# Altium footprint library Connector_Molex.PcbLib: 815 footprints (part 32 of 51)
Each footprint in its own frame and in the unit in brackets; x right, y up, seen from the top. Pads: shape width x height; smd on the part's side, far side on the other; paste and mask are expansions set on the pad; w line width, h text height; cw(c..) or ccw(c..) is an arc to the next point about the centre after c.
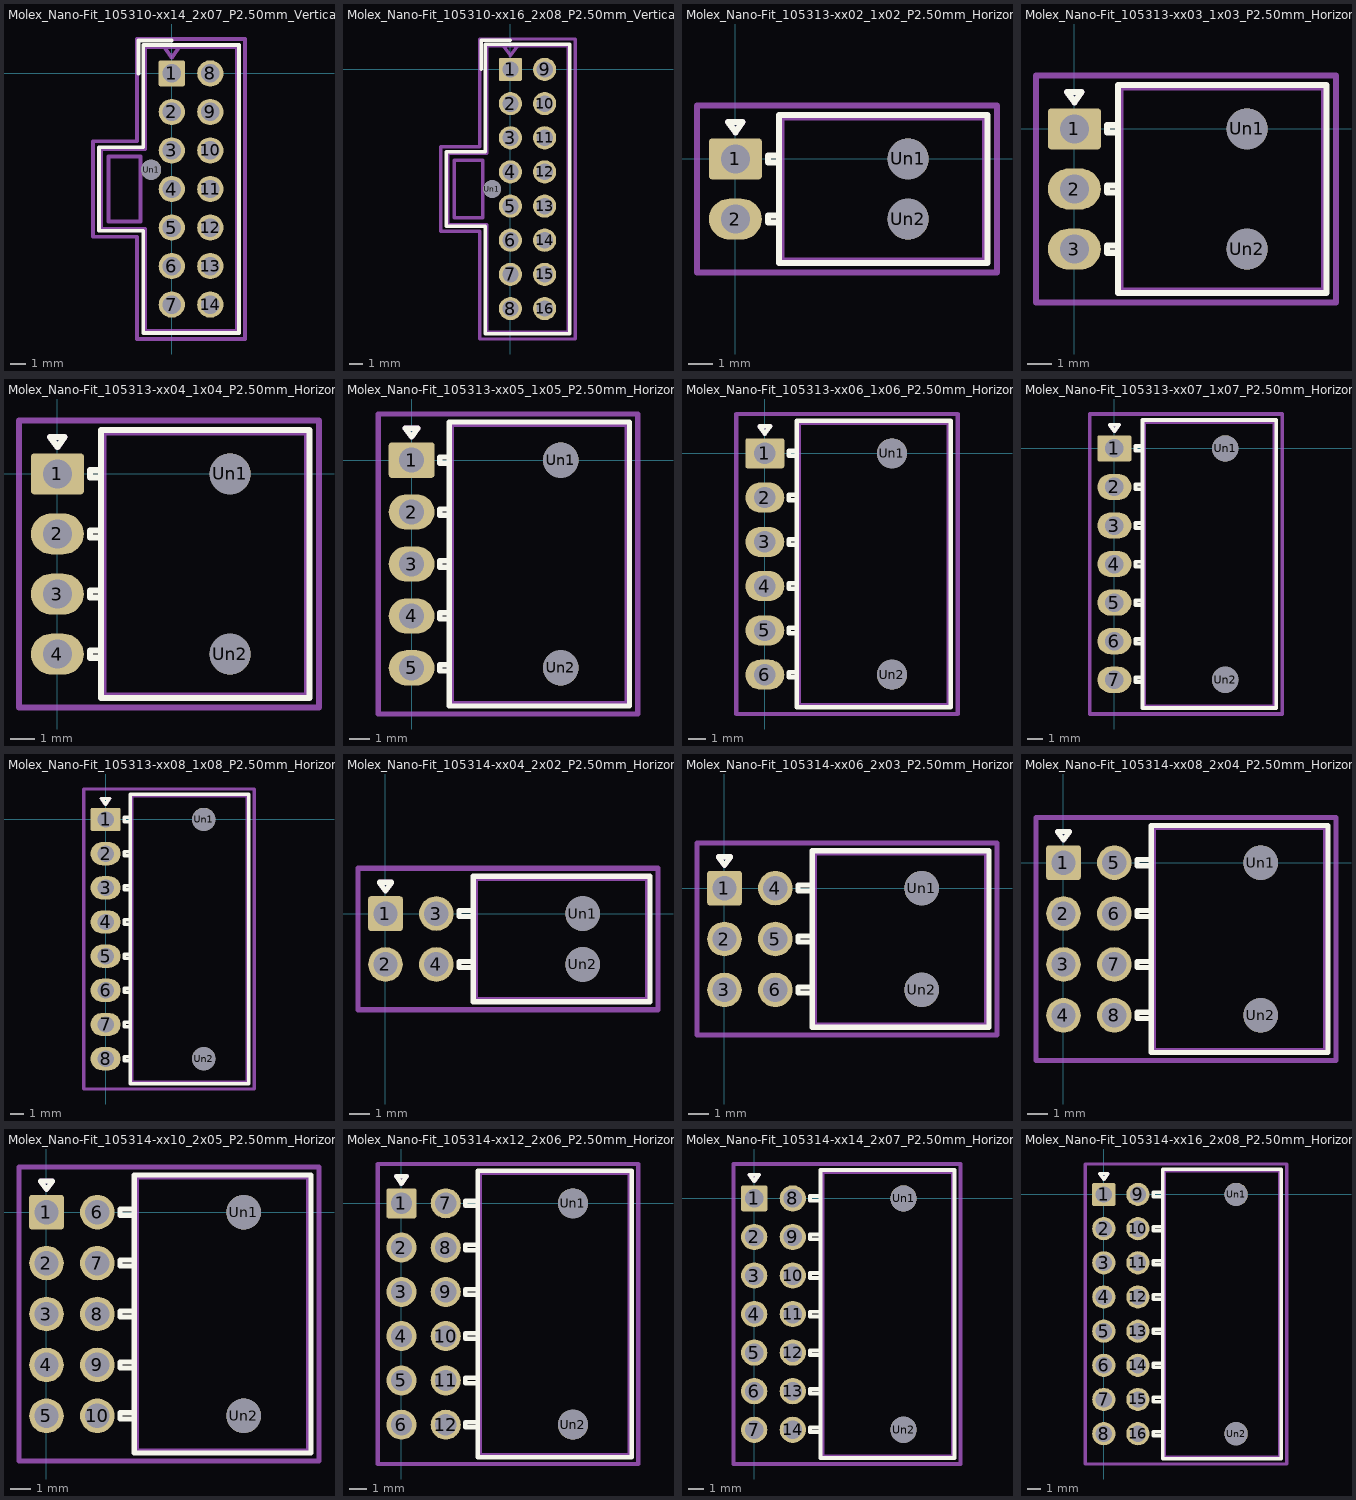
[diagram p31: the footprints below, top view; thin cyan lines are the x and y axes]

## Molex_Nano-Fit_105310-xx14_2x07_P2.50mm_Vertical [mm]
pads (15):
  rrect15% 1.7x1.7 hole 1.2: 1(0,0)
  round 1.7 hole 1.2: 2(0,-2.5) 3(0,-5) 4(0,-7.5) 5(0,-10) 6(0,-12.5) 7(0,-15) 8(2.5,0) 9(2.5,-2.5) 10(2.5,-5) 11(2.5,-7.5) 12(2.5,-10) 13(2.5,-12.5) 14(2.5,-15)
  round 1.3 hole 1.3: Un1(-1.34,-6.25)
F.SilkS:
  lines w0.254: -2.15,0 -2.15,2.13 0,2.13 ; -4.71,-10.21 -1.85,-10.21 -1.85,-16.83 4.35,-16.83 4.35,-7.5 4.35,1.83 -1.85,1.83 -1.85,-4.79 -4.71,-4.79 -4.71,-7.5 -4.71,-10.21
Top Assembly:
  lines w0.254: -0.5,1.72 0,1.013 0.5,1.72 ; -4.6,-10.1 -1.74,-10.1 -1.74,-16.72 4.24,-16.72 4.24,-7.5 4.24,1.72 -1.74,1.72 -1.74,-4.9 -4.6,-4.9 -4.6,-7.5 -4.6,-10.1 ; -4.1,-9.6 -2.02,-9.6 -2.02,-5.4 -4.1,-5.4 -4.1,-9.6
  text "'.Designator'" at 4.38,-11.547 h1
Top Courtyard:
  lines w0.254: -5.1,-10.6 -2.25,-10.6 -2.25,-17.23 4.74,-17.23 4.74,-7.5 4.74,2.23 -2.25,2.23 -2.25,-4.4 -5.1,-4.4 -5.1,-7.5 -5.1,-10.6
Top Designator:
  text ".Designator" at -7.798,-8.008 h1.52

## Molex_Nano-Fit_105310-xx16_2x08_P2.50mm_Vertical [mm]
pads (17):
  rrect15% 1.7x1.7 hole 1.2: 1(0,0)
  round 1.7 hole 1.2: 2(0,-2.5) 3(0,-5) 4(0,-7.5) 5(0,-10) 6(0,-12.5) 7(0,-15) 8(0,-17.5) 9(2.5,0) 10(2.5,-2.5) 11(2.5,-5) 12(2.5,-7.5) 13(2.5,-10) 14(2.5,-12.5) 15(2.5,-15) 16(2.5,-17.5)
  round 1.3 hole 1.3: Un1(-1.34,-8.75)
F.SilkS:
  lines w0.254: -2.15,0 -2.15,2.13 0,2.13 ; -4.71,-11.46 -1.85,-11.46 -1.85,-19.33 4.35,-19.33 4.35,-8.75 4.35,1.83 -1.85,1.83 -1.85,-6.04 -4.71,-6.04 -4.71,-8.75 -4.71,-11.46
Top Assembly:
  lines w0.254: -0.5,1.72 0,1.013 0.5,1.72 ; -4.6,-11.35 -1.74,-11.35 -1.74,-19.22 4.24,-19.22 4.24,-8.75 4.24,1.72 -1.74,1.72 -1.74,-6.15 -4.6,-6.15 -4.6,-8.75 -4.6,-11.35 ; -4.1,-10.85 -2.02,-10.85 -2.02,-6.65 -4.1,-6.65 -4.1,-10.85
  text "'.Designator'" at 4.38,-12.797 h1
Top Courtyard:
  lines w0.254: -5.1,-11.85 -2.25,-11.85 -2.25,-19.73 4.74,-19.73 4.74,-8.75 4.74,2.23 -2.25,2.23 -2.25,-5.65 -5.1,-5.65 -5.1,-8.75 -5.1,-11.85
Top Designator:
  text ".Designator" at -7.798,-9.258 h1.52

## Molex_Nano-Fit_105313-xx02_1x02_P2.50mm_Horizontal [mm]
pads (4):
  rrect15% 2.2x1.7 hole 1.2: 1(0,0)
  rrect100% 2.2x1.7 hole 1.2: 2(0,-2.5)
  round 1.7 hole 1.7: Un1(7.18,0) Un2(7.18,-2.5)
F.SilkS:
  lines w0.254: -0.3,1.534 0.3,1.534 0,1.11 -0.3,1.534 ; 1.36,-2.65 1.81,-2.65 1.81,-2.35 1.36,-2.35 1.36,-2.65 ; 1.36,-0.15 1.81,-0.15 1.81,0.15 1.36,0.15 1.36,-0.15 ; 1.81,-4.33 10.49,-4.33 10.49,1.83 1.81,1.83 1.81,-4.33
Top Assembly:
  lines w0.254: -0.3,1.534 0.3,1.534 0,1.11 -0.3,1.534 ; 1.92,-4.22 10.38,-4.22 10.38,1.72 1.92,1.72 1.92,-4.22
  text "'.Designator'" at 2.103,-4.36 h1
Top Courtyard:
  lines w0.254: -1.6,-4.72 10.88,-4.72 10.88,2.22 -1.6,2.22 -1.6,-4.72
Top Designator:
  text ".Designator" at -2.978,-1.758 h1.52

## Molex_Nano-Fit_105313-xx03_1x03_P2.50mm_Horizontal [mm]
pads (5):
  rrect15% 2.2x1.7 hole 1.2: 1(0,0)
  rrect100% 2.2x1.7 hole 1.2: 2(0,-2.5) 3(0,-5)
  round 1.7 hole 1.7: Un1(7.18,0) Un2(7.18,-5)
F.SilkS:
  lines w0.254: -0.3,1.534 0.3,1.534 0,1.11 -0.3,1.534 ; 1.36,-5.15 1.81,-5.15 1.81,-4.85 1.36,-4.85 1.36,-5.15 ; 1.36,-2.65 1.81,-2.65 1.81,-2.35 1.36,-2.35 1.36,-2.65 ; 1.36,-0.15 1.81,-0.15 1.81,0.15 1.36,0.15 1.36,-0.15 ; 1.81,-6.83 10.49,-6.83 10.49,1.83 1.81,1.83 1.81,-6.83
Top Assembly:
  lines w0.254: -0.3,1.534 0.3,1.534 0,1.11 -0.3,1.534 ; 1.92,-6.72 10.38,-6.72 10.38,1.72 1.92,1.72 1.92,-6.72
  text "'.Designator'" at 2.103,-6.86 h1
Top Courtyard:
  lines w0.254: -1.6,-7.22 10.88,-7.22 10.88,2.22 -1.6,2.22 -1.6,-7.22
Top Designator:
  text ".Designator" at -2.978,-3.008 h1.52

## Molex_Nano-Fit_105313-xx04_1x04_P2.50mm_Horizontal [mm]
pads (6):
  rrect15% 2.2x1.7 hole 1.2: 1(0,0)
  rrect100% 2.2x1.7 hole 1.2: 2(0,-2.5) 3(0,-5) 4(0,-7.5)
  round 1.7 hole 1.7: Un1(7.18,0) Un2(7.18,-7.5)
F.SilkS:
  lines w0.254: -0.3,1.534 0.3,1.534 0,1.11 -0.3,1.534 ; 1.36,-7.65 1.81,-7.65 1.81,-7.35 1.36,-7.35 1.36,-7.65 ; 1.36,-5.15 1.81,-5.15 1.81,-4.85 1.36,-4.85 1.36,-5.15 ; 1.36,-2.65 1.81,-2.65 1.81,-2.35 1.36,-2.35 1.36,-2.65 ; 1.36,-0.15 1.81,-0.15 1.81,0.15 1.36,0.15 1.36,-0.15 ; 1.81,-9.33 10.49,-9.33 10.49,1.83 1.81,1.83 1.81,-9.33
Top Assembly:
  lines w0.254: -0.3,1.534 0.3,1.534 0,1.11 -0.3,1.534 ; 1.92,-9.22 10.38,-9.22 10.38,1.72 1.92,1.72 1.92,-9.22
  text "'.Designator'" at 2.103,-9.36 h1
Top Courtyard:
  lines w0.254: -1.6,-9.72 10.88,-9.72 10.88,2.22 -1.6,2.22 -1.6,-9.72
Top Designator:
  text ".Designator" at -2.978,-4.258 h1.52

## Molex_Nano-Fit_105313-xx05_1x05_P2.50mm_Horizontal [mm]
pads (7):
  rrect15% 2.2x1.7 hole 1.2: 1(0,0)
  rrect100% 2.2x1.7 hole 1.2: 2(0,-2.5) 3(0,-5) 4(0,-7.5) 5(0,-10)
  round 1.7 hole 1.7: Un1(7.18,0) Un2(7.18,-10)
F.SilkS:
  lines w0.254: -0.3,1.534 0.3,1.534 0,1.11 -0.3,1.534 ; 1.36,-10.15 1.81,-10.15 1.81,-9.85 1.36,-9.85 1.36,-10.15 ; 1.36,-7.65 1.81,-7.65 1.81,-7.35 1.36,-7.35 1.36,-7.65 ; 1.36,-5.15 1.81,-5.15 1.81,-4.85 1.36,-4.85 1.36,-5.15 ; 1.36,-2.65 1.81,-2.65 1.81,-2.35 1.36,-2.35 1.36,-2.65 ; 1.36,-0.15 1.81,-0.15 1.81,0.15 1.36,0.15 1.36,-0.15 ; 1.81,-11.83 10.49,-11.83 10.49,1.83 1.81,1.83 1.81,-11.83
Top Assembly:
  lines w0.254: -0.3,1.534 0.3,1.534 0,1.11 -0.3,1.534 ; 1.92,-11.72 10.38,-11.72 10.38,1.72 1.92,1.72 1.92,-11.72
  text "'.Designator'" at 2.103,-11.86 h1
Top Courtyard:
  lines w0.254: -1.6,-12.22 10.88,-12.22 10.88,2.22 -1.6,2.22 -1.6,-12.22
Top Designator:
  text ".Designator" at -2.978,-5.508 h1.52

## Molex_Nano-Fit_105313-xx06_1x06_P2.50mm_Horizontal [mm]
pads (8):
  rrect15% 2.2x1.7 hole 1.2: 1(0,0)
  rrect100% 2.2x1.7 hole 1.2: 2(0,-2.5) 3(0,-5) 4(0,-7.5) 5(0,-10) 6(0,-12.5)
  round 1.7 hole 1.7: Un1(7.18,0) Un2(7.18,-12.5)
F.SilkS:
  lines w0.254: -0.3,1.534 0.3,1.534 0,1.11 -0.3,1.534 ; 1.36,-12.65 1.81,-12.65 1.81,-12.35 1.36,-12.35 1.36,-12.65 ; 1.36,-10.15 1.81,-10.15 1.81,-9.85 1.36,-9.85 1.36,-10.15 ; 1.36,-7.65 1.81,-7.65 1.81,-7.35 1.36,-7.35 1.36,-7.65 ; 1.36,-5.15 1.81,-5.15 1.81,-4.85 1.36,-4.85 1.36,-5.15 ; 1.36,-2.65 1.81,-2.65 1.81,-2.35 1.36,-2.35 1.36,-2.65 ; 1.36,-0.15 1.81,-0.15 1.81,0.15 1.36,0.15 1.36,-0.15 ; 1.81,-14.33 10.49,-14.33 10.49,1.83 1.81,1.83 1.81,-14.33
Top Assembly:
  lines w0.254: -0.3,1.534 0.3,1.534 0,1.11 -0.3,1.534 ; 1.92,-14.22 10.38,-14.22 10.38,1.72 1.92,1.72 1.92,-14.22
  text "'.Designator'" at 2.103,-14.36 h1
Top Courtyard:
  lines w0.254: -1.6,-14.72 10.88,-14.72 10.88,2.22 -1.6,2.22 -1.6,-14.72
Top Designator:
  text ".Designator" at -2.978,-6.758 h1.52

## Molex_Nano-Fit_105313-xx07_1x07_P2.50mm_Horizontal [mm]
pads (9):
  rrect15% 2.2x1.7 hole 1.2: 1(0,0)
  rrect100% 2.2x1.7 hole 1.2: 2(0,-2.5) 3(0,-5) 4(0,-7.5) 5(0,-10) 6(0,-12.5) 7(0,-15)
  round 1.7 hole 1.7: Un1(7.18,0) Un2(7.18,-15)
F.SilkS:
  lines w0.254: -0.3,1.534 0.3,1.534 0,1.11 -0.3,1.534 ; 1.36,-15.15 1.81,-15.15 1.81,-14.85 1.36,-14.85 1.36,-15.15 ; 1.36,-12.65 1.81,-12.65 1.81,-12.35 1.36,-12.35 1.36,-12.65 ; 1.36,-10.15 1.81,-10.15 1.81,-9.85 1.36,-9.85 1.36,-10.15 ; 1.36,-7.65 1.81,-7.65 1.81,-7.35 1.36,-7.35 1.36,-7.65 ; 1.36,-5.15 1.81,-5.15 1.81,-4.85 1.36,-4.85 1.36,-5.15 ; 1.36,-2.65 1.81,-2.65 1.81,-2.35 1.36,-2.35 1.36,-2.65 ; 1.36,-0.15 1.81,-0.15 1.81,0.15 1.36,0.15 1.36,-0.15 ; 1.81,-16.83 10.49,-16.83 10.49,1.83 1.81,1.83 1.81,-16.83
Top Assembly:
  lines w0.254: -0.3,1.534 0.3,1.534 0,1.11 -0.3,1.534 ; 1.92,-16.72 10.38,-16.72 10.38,1.72 1.92,1.72 1.92,-16.72
  text "'.Designator'" at 2.103,-16.86 h1
Top Courtyard:
  lines w0.254: -1.6,-17.22 10.88,-17.22 10.88,2.23 -1.6,2.23 -1.6,-17.22
Top Designator:
  text ".Designator" at -2.978,-8.003 h1.52

## Molex_Nano-Fit_105313-xx08_1x08_P2.50mm_Horizontal [mm]
pads (10):
  rrect15% 2.2x1.7 hole 1.2: 1(0,0)
  rrect100% 2.2x1.7 hole 1.2: 2(0,-2.5) 3(0,-5) 4(0,-7.5) 5(0,-10) 6(0,-12.5) 7(0,-15) 8(0,-17.5)
  round 1.7 hole 1.7: Un1(7.18,0) Un2(7.18,-17.5)
F.SilkS:
  lines w0.254: -0.3,1.534 0.3,1.534 0,1.11 -0.3,1.534 ; 1.36,-17.65 1.81,-17.65 1.81,-17.35 1.36,-17.35 1.36,-17.65 ; 1.36,-15.15 1.81,-15.15 1.81,-14.85 1.36,-14.85 1.36,-15.15 ; 1.36,-12.65 1.81,-12.65 1.81,-12.35 1.36,-12.35 1.36,-12.65 ; 1.36,-10.15 1.81,-10.15 1.81,-9.85 1.36,-9.85 1.36,-10.15 ; 1.36,-7.65 1.81,-7.65 1.81,-7.35 1.36,-7.35 1.36,-7.65 ; 1.36,-5.15 1.81,-5.15 1.81,-4.85 1.36,-4.85 1.36,-5.15 ; 1.36,-2.65 1.81,-2.65 1.81,-2.35 1.36,-2.35 1.36,-2.65 ; 1.36,-0.15 1.81,-0.15 1.81,0.15 1.36,0.15 1.36,-0.15 ; 1.81,-19.33 10.49,-19.33 10.49,1.83 1.81,1.83 1.81,-19.33
Top Assembly:
  lines w0.254: -0.3,1.534 0.3,1.534 0,1.11 -0.3,1.534 ; 1.92,-19.22 10.38,-19.22 10.38,1.72 1.92,1.72 1.92,-19.22
  text "'.Designator'" at 2.103,-19.36 h1
Top Courtyard:
  lines w0.254: -1.6,-19.72 10.88,-19.72 10.88,2.23 -1.6,2.23 -1.6,-19.72
Top Designator:
  text ".Designator" at -2.978,-9.253 h1.52

## Molex_Nano-Fit_105314-xx04_2x02_P2.50mm_Horizontal [mm]
pads (6):
  rrect15% 1.7x1.7 hole 1.2: 1(0,0)
  round 1.7 hole 1.2: 2(0,-2.5) 3(2.5,0) 4(2.5,-2.5)
  round 1.7 hole 1.7: Un1(9.68,0) Un2(9.68,-2.5)
F.SilkS:
  lines w0.254: -0.3,1.534 0.3,1.534 0,1.11 -0.3,1.534 ; 3.61,-2.65 4.31,-2.65 4.31,-2.35 3.61,-2.35 3.61,-2.65 ; 3.61,-0.15 4.31,-0.15 4.31,0.15 3.61,0.15 3.61,-0.15 ; 4.31,-4.33 12.99,-4.33 12.99,1.83 4.31,1.83 4.31,-4.33
Top Assembly:
  lines w0.254: -0.3,1.534 0.3,1.534 0,1.11 -0.3,1.534 ; 4.42,-4.22 12.88,-4.22 12.88,1.72 4.42,1.72 4.42,-4.22
  text "'.Designator'" at 4.603,-4.36 h1
Top Courtyard:
  lines w0.254: -1.35,-4.72 13.38,-4.72 13.38,2.22 -1.35,2.22 -1.35,-4.72
Top Designator:
  text ".Designator" at -1.603,-1.758 h1.52

## Molex_Nano-Fit_105314-xx06_2x03_P2.50mm_Horizontal [mm]
pads (8):
  rrect15% 1.7x1.7 hole 1.2: 1(0,0)
  round 1.7 hole 1.2: 2(0,-2.5) 3(0,-5) 4(2.5,0) 5(2.5,-2.5) 6(2.5,-5)
  round 1.7 hole 1.7: Un1(9.68,0) Un2(9.68,-5)
F.SilkS:
  lines w0.254: -0.3,1.534 0.3,1.534 0,1.11 -0.3,1.534 ; 3.61,-5.15 4.31,-5.15 4.31,-4.85 3.61,-4.85 3.61,-5.15 ; 3.61,-2.65 4.31,-2.65 4.31,-2.35 3.61,-2.35 3.61,-2.65 ; 3.61,-0.15 4.31,-0.15 4.31,0.15 3.61,0.15 3.61,-0.15 ; 4.31,-6.83 12.99,-6.83 12.99,1.83 4.31,1.83 4.31,-6.83
Top Assembly:
  lines w0.254: -0.3,1.534 0.3,1.534 0,1.11 -0.3,1.534 ; 4.42,-6.72 12.88,-6.72 12.88,1.72 4.42,1.72 4.42,-6.72
  text "'.Designator'" at 4.603,-6.86 h1
Top Courtyard:
  lines w0.254: -1.35,-7.22 13.38,-7.22 13.38,2.22 -1.35,2.22 -1.35,-7.22
Top Designator:
  text ".Designator" at -1.603,-3.008 h1.52

## Molex_Nano-Fit_105314-xx08_2x04_P2.50mm_Horizontal [mm]
pads (10):
  rrect15% 1.7x1.7 hole 1.2: 1(0,0)
  round 1.7 hole 1.2: 2(0,-2.5) 3(0,-5) 4(0,-7.5) 5(2.5,0) 6(2.5,-2.5) 7(2.5,-5) 8(2.5,-7.5)
  round 1.7 hole 1.7: Un1(9.68,0) Un2(9.68,-7.5)
F.SilkS:
  lines w0.254: -0.3,1.534 0.3,1.534 0,1.11 -0.3,1.534 ; 3.61,-7.65 4.31,-7.65 4.31,-7.35 3.61,-7.35 3.61,-7.65 ; 3.61,-5.15 4.31,-5.15 4.31,-4.85 3.61,-4.85 3.61,-5.15 ; 3.61,-2.65 4.31,-2.65 4.31,-2.35 3.61,-2.35 3.61,-2.65 ; 3.61,-0.15 4.31,-0.15 4.31,0.15 3.61,0.15 3.61,-0.15 ; 4.31,-9.33 12.99,-9.33 12.99,1.83 4.31,1.83 4.31,-9.33
Top Assembly:
  lines w0.254: -0.3,1.534 0.3,1.534 0,1.11 -0.3,1.534 ; 4.42,-9.22 12.88,-9.22 12.88,1.72 4.42,1.72 4.42,-9.22
  text "'.Designator'" at 4.603,-9.36 h1
Top Courtyard:
  lines w0.254: -1.35,-9.72 13.38,-9.72 13.38,2.22 -1.35,2.22 -1.35,-9.72
Top Designator:
  text ".Designator" at -1.603,-4.258 h1.52

## Molex_Nano-Fit_105314-xx10_2x05_P2.50mm_Horizontal [mm]
pads (12):
  rrect15% 1.7x1.7 hole 1.2: 1(0,0)
  round 1.7 hole 1.2: 2(0,-2.5) 3(0,-5) 4(0,-7.5) 5(0,-10) 6(2.5,0) 7(2.5,-2.5) 8(2.5,-5) 9(2.5,-7.5) 10(2.5,-10)
  round 1.7 hole 1.7: Un1(9.68,0) Un2(9.68,-10)
F.SilkS:
  lines w0.254: -0.3,1.534 0.3,1.534 0,1.11 -0.3,1.534 ; 3.61,-10.15 4.31,-10.15 4.31,-9.85 3.61,-9.85 3.61,-10.15 ; 3.61,-7.65 4.31,-7.65 4.31,-7.35 3.61,-7.35 3.61,-7.65 ; 3.61,-5.15 4.31,-5.15 4.31,-4.85 3.61,-4.85 3.61,-5.15 ; 3.61,-2.65 4.31,-2.65 4.31,-2.35 3.61,-2.35 3.61,-2.65 ; 3.61,-0.15 4.31,-0.15 4.31,0.15 3.61,0.15 3.61,-0.15 ; 4.31,-11.83 12.99,-11.83 12.99,1.83 4.31,1.83 4.31,-11.83
Top Assembly:
  lines w0.254: -0.3,1.534 0.3,1.534 0,1.11 -0.3,1.534 ; 4.42,-11.72 12.88,-11.72 12.88,1.72 4.42,1.72 4.42,-11.72
  text "'.Designator'" at 4.603,-11.86 h1
Top Courtyard:
  lines w0.254: -1.35,-12.22 13.38,-12.22 13.38,2.22 -1.35,2.22 -1.35,-12.22
Top Designator:
  text ".Designator" at -1.603,-5.508 h1.52

## Molex_Nano-Fit_105314-xx12_2x06_P2.50mm_Horizontal [mm]
pads (14):
  rrect15% 1.7x1.7 hole 1.2: 1(0,0)
  round 1.7 hole 1.2: 2(0,-2.5) 3(0,-5) 4(0,-7.5) 5(0,-10) 6(0,-12.5) 7(2.5,0) 8(2.5,-2.5) 9(2.5,-5) 10(2.5,-7.5) 11(2.5,-10) 12(2.5,-12.5)
  round 1.7 hole 1.7: Un1(9.68,0) Un2(9.68,-12.5)
F.SilkS:
  lines w0.254: -0.3,1.534 0.3,1.534 0,1.11 -0.3,1.534 ; 3.61,-12.65 4.31,-12.65 4.31,-12.35 3.61,-12.35 3.61,-12.65 ; 3.61,-10.15 4.31,-10.15 4.31,-9.85 3.61,-9.85 3.61,-10.15 ; 3.61,-7.65 4.31,-7.65 4.31,-7.35 3.61,-7.35 3.61,-7.65 ; 3.61,-5.15 4.31,-5.15 4.31,-4.85 3.61,-4.85 3.61,-5.15 ; 3.61,-2.65 4.31,-2.65 4.31,-2.35 3.61,-2.35 3.61,-2.65 ; 3.61,-0.15 4.31,-0.15 4.31,0.15 3.61,0.15 3.61,-0.15 ; 4.31,-14.33 12.99,-14.33 12.99,1.83 4.31,1.83 4.31,-14.33
Top Assembly:
  lines w0.254: -0.3,1.534 0.3,1.534 0,1.11 -0.3,1.534 ; 4.42,-14.22 12.88,-14.22 12.88,1.72 4.42,1.72 4.42,-14.22
  text "'.Designator'" at 4.603,-14.36 h1
Top Courtyard:
  lines w0.254: -1.35,-14.72 13.38,-14.72 13.38,2.22 -1.35,2.22 -1.35,-14.72
Top Designator:
  text ".Designator" at -1.603,-6.758 h1.52

## Molex_Nano-Fit_105314-xx14_2x07_P2.50mm_Horizontal [mm]
pads (16):
  rrect15% 1.7x1.7 hole 1.2: 1(0,0)
  round 1.7 hole 1.2: 2(0,-2.5) 3(0,-5) 4(0,-7.5) 5(0,-10) 6(0,-12.5) 7(0,-15) 8(2.5,0) 9(2.5,-2.5) 10(2.5,-5) 11(2.5,-7.5) 12(2.5,-10) 13(2.5,-12.5) 14(2.5,-15)
  round 1.7 hole 1.7: Un1(9.68,0) Un2(9.68,-15)
F.SilkS:
  lines w0.254: -0.3,1.534 0.3,1.534 0,1.11 -0.3,1.534 ; 3.61,-15.15 4.31,-15.15 4.31,-14.85 3.61,-14.85 3.61,-15.15 ; 3.61,-12.65 4.31,-12.65 4.31,-12.35 3.61,-12.35 3.61,-12.65 ; 3.61,-10.15 4.31,-10.15 4.31,-9.85 3.61,-9.85 3.61,-10.15 ; 3.61,-7.65 4.31,-7.65 4.31,-7.35 3.61,-7.35 3.61,-7.65 ; 3.61,-5.15 4.31,-5.15 4.31,-4.85 3.61,-4.85 3.61,-5.15 ; 3.61,-2.65 4.31,-2.65 4.31,-2.35 3.61,-2.35 3.61,-2.65 ; 3.61,-0.15 4.31,-0.15 4.31,0.15 3.61,0.15 3.61,-0.15 ; 4.31,-16.83 12.99,-16.83 12.99,1.83 4.31,1.83 4.31,-16.83
Top Assembly:
  lines w0.254: -0.3,1.534 0.3,1.534 0,1.11 -0.3,1.534 ; 4.42,-16.72 12.88,-16.72 12.88,1.72 4.42,1.72 4.42,-16.72
  text "'.Designator'" at 4.603,-16.86 h1
Top Courtyard:
  lines w0.254: -1.35,-17.22 13.38,-17.22 13.38,2.23 -1.35,2.23 -1.35,-17.22
Top Designator:
  text ".Designator" at -1.603,-8.003 h1.52

## Molex_Nano-Fit_105314-xx16_2x08_P2.50mm_Horizontal [mm]
pads (18):
  rrect15% 1.7x1.7 hole 1.2: 1(0,0)
  round 1.7 hole 1.2: 2(0,-2.5) 3(0,-5) 4(0,-7.5) 5(0,-10) 6(0,-12.5) 7(0,-15) 8(0,-17.5) 9(2.5,0) 10(2.5,-2.5) 11(2.5,-5) 12(2.5,-7.5) 13(2.5,-10) 14(2.5,-12.5) 15(2.5,-15) 16(2.5,-17.5)
  round 1.7 hole 1.7: Un1(9.68,0) Un2(9.68,-17.5)
F.SilkS:
  lines w0.254: -0.3,1.534 0.3,1.534 0,1.11 -0.3,1.534 ; 3.61,-17.65 4.31,-17.65 4.31,-17.35 3.61,-17.35 3.61,-17.65 ; 3.61,-15.15 4.31,-15.15 4.31,-14.85 3.61,-14.85 3.61,-15.15 ; 3.61,-12.65 4.31,-12.65 4.31,-12.35 3.61,-12.35 3.61,-12.65 ; 3.61,-10.15 4.31,-10.15 4.31,-9.85 3.61,-9.85 3.61,-10.15 ; 3.61,-7.65 4.31,-7.65 4.31,-7.35 3.61,-7.35 3.61,-7.65 ; 3.61,-5.15 4.31,-5.15 4.31,-4.85 3.61,-4.85 3.61,-5.15 ; 3.61,-2.65 4.31,-2.65 4.31,-2.35 3.61,-2.35 3.61,-2.65 ; 3.61,-0.15 4.31,-0.15 4.31,0.15 3.61,0.15 3.61,-0.15 ; 4.31,-19.33 12.99,-19.33 12.99,1.83 4.31,1.83 4.31,-19.33
Top Assembly:
  lines w0.254: -0.3,1.534 0.3,1.534 0,1.11 -0.3,1.534 ; 4.42,-19.22 12.88,-19.22 12.88,1.72 4.42,1.72 4.42,-19.22
  text "'.Designator'" at 4.603,-19.36 h1
Top Courtyard:
  lines w0.254: -1.35,-19.72 13.38,-19.72 13.38,2.23 -1.35,2.23 -1.35,-19.72
Top Designator:
  text ".Designator" at -1.603,-9.253 h1.52